# Altium footprint library diode.PCBLIB: 211 footprints (part 10 of 14)
Each footprint in its own frame and in the unit in brackets; x right, y up, seen from the top. Pads: shape width x height; smd on the part's side, far side on the other; paste and mask are expansions set on the pad; w line width, h text height; cw(c..) or ccw(c..) is an arc to the next point about the centre after c.
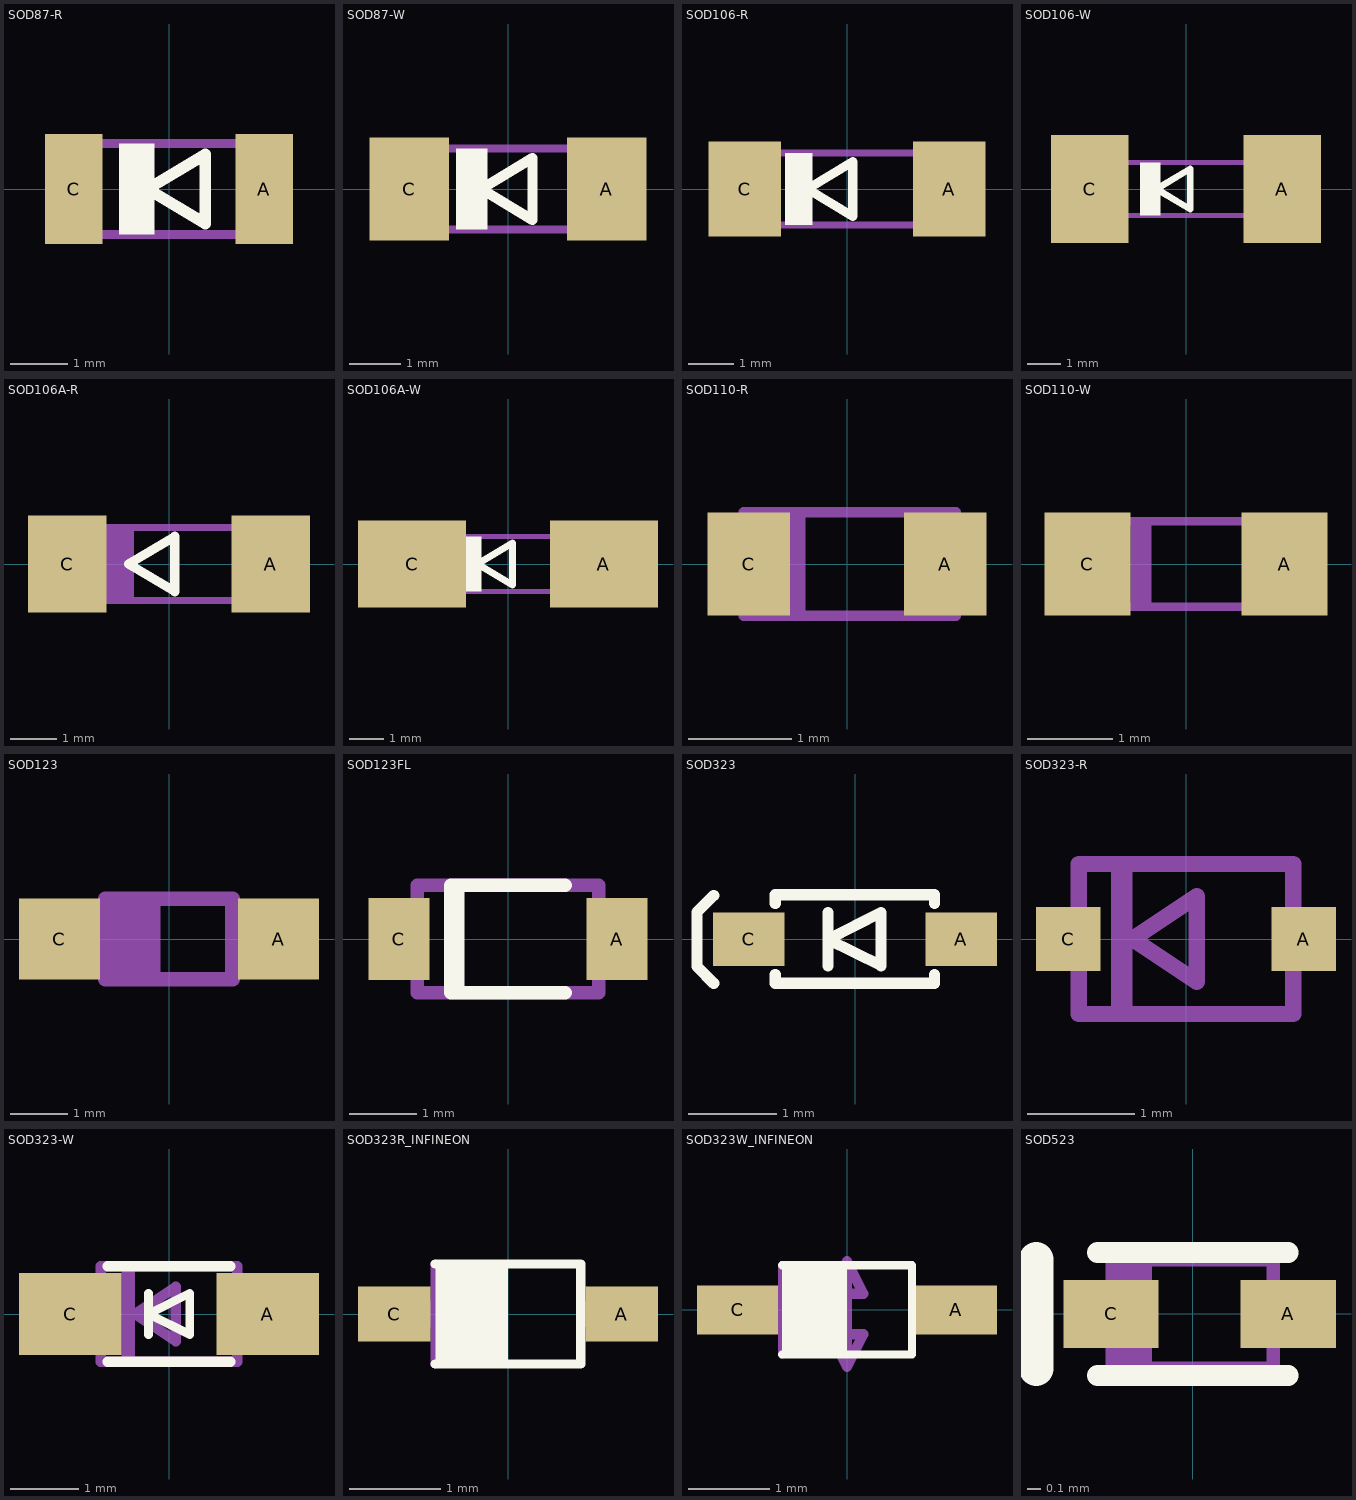
[diagram p9: the footprints below, top view; thin cyan lines are the x and y axes]

## SOD87-R [mm]
pads (2):
  rect 1x1.9 smd: A(1.65,0) C(-1.65,0)
Top Overlay:
  rectangle: -0.864,-0.787 -0.254,0.787
  lines w0.203: -0.373,0 0.627,0.6 0.627,-0.6 -0.373,0
Mechanical 4:
  rectangle: -1.854,-0.864 -1.295,0.864
  rectangle: 1.295,-0.864 1.854,0.864
  lines w0.152: -1.321,-0.787 1.321,-0.787 ; -1.321,0.787 1.321,0.787

## SOD87-W [mm]
pads (2):
  rect 1.55x2 smd: A(1.925,0) C(-1.925,0)
Top Overlay:
  rectangle: -1.014,-0.787 -0.404,0.787
  lines w0.203: -0.523,0 0.477,-0.6 0.477,0.6 -0.523,0
Mechanical 4:
  rectangle: 1.446,-0.864 2.004,0.864
  rectangle: -2.004,-0.864 -1.446,0.864
  lines w0.152: -1.471,-0.787 1.471,-0.787 ; -1.471,0.787 1.471,0.787

## SOD106-R [mil]
pads (2):
  rect 62.99x82.68 smd: A(88.58,0) C(-88.58,0)
Top Overlay:
  rectangle: -53.69,-31 -29.69,31
  lines w8: -34.37,0 5,-23.62 5,23.62 -34.37,0
Mechanical 4:
  rectangle: 70.69,-34 92.69,34
  rectangle: -92.69,-34 -70.69,34
  lines w6: -71.69,-31 71.69,-31 ; -71.69,31 71.69,31

## SOD106-W [mil]
pads (2):
  rect 90.55x125.98 smd: A(112.2,0) C(-112.2,0)
Top Overlay:
  rectangle: -53.69,-31 -29.69,31
  lines w8: -34.37,0 5,23.62 5,-23.62 -34.37,0
Mechanical 4:
  rectangle: -92.69,-34 -70.69,34
  rectangle: 70.69,-34 92.69,34
  lines w6: -71.69,-31 71.69,-31 ; -71.69,31 71.69,31

## SOD106A-R [mil]
pads (2):
  rect 66.93x82.68 smd: A(86.61,0) C(-86.61,0)
Top Overlay:
  lines w8: -34.37,0 5,23.62 5,-23.62 -34.37,0
Mechanical 4:
  rectangle: -92.69,-34 -70.69,34
  rectangle: 70.69,-34 92.69,34
  rectangle: -53.69,-31 -29.69,31
  lines w6: -71.69,-31 71.69,-31 ; -71.69,31 71.69,31

## SOD106A-W [mil]
pads (2):
  rect 122.05x98.43 smd: A(108.27,0) C(-108.27,0)
Top Overlay:
  rectangle: -53.69,-31 -29.69,31
  lines w8: -34.37,0 5,23.62 5,-23.62 -34.37,0
Mechanical 4:
  rectangle: -92.69,-34 -70.69,34
  rectangle: 70.69,-34 92.69,34
  lines w6: -71.69,-31 71.69,-31 ; -71.69,31 71.69,31

## SOD110-R [mil]
pads (2):
  rect 31.5x39.37 smd: A(37.4,0) C(-37.4,0)
Mechanical 4:
  rectangle: -25.59,-17.72 -15.75,17.72
  lines w4: -39.37,-19.69 41.34,-19.69 41.34,19.69 -39.37,19.69 -39.37,-19.69

## SOD110-W [mm]
pads (2):
  rect 1x1.2 smd: A(1.15,0) C(-1.15,0)
Mechanical 4:
  rectangle: -0.65,-0.45 -0.4,0.45
  lines w0.102: -1,-0.5 -1,0.5 1.05,0.5 1.05,-0.5 -1,-0.5

## SOD123 [mil]
pads (2):
  rect 55.12x55.12 smd: A(74.8,0) C(-74.8,0)
Mechanical 4:
  rectangle: -76.77,-17.72 -47.24,15.75
  rectangle: 47.24,-17.72 76.77,15.75
  rectangle: -41.34,-25.59 -5.91,27.56
  lines w10: -43.31,-27.56 43.31,-27.56 43.31,27.56 -43.31,27.56 -43.31,-27.56
3D body "CircuitWorks-SOD123.step": height 50, standoff 0, extent -72.83,-31.49 72.84,31.5

## SOD123FL [mil]
pads (2):
  rect 35.83x48.03 smd: A(63.98,0) C(-63.98,0)
Top Overlay:
  rectangle: -37.4,-30.51 -25.59,31.5
  lines w8: -33.46,-31.5 33.46,-31.5 ; -33.46,31.5 33.46,31.5
Mechanical 4:
  region: 70.87,21.65 56.1,21.65 56.1,-21.65 70.87,-21.65
  rectangle: -70.87,-21.65 -56.1,21.65
  lines w8: -53.15,-31.5 -53.15,31.5 53.15,31.5 53.15,-31.5 -53.15,-31.5
3D body "User Library-SOD123F.step": height 47.24, standoff -0.39, extent -74.8,-33.46 72.84,33.47

## SOD323 [mil]
pads (2):
  rect 32x24 smd: A(47.62,0) C(-47.62,0)
Top Overlay:
  lines w5: -63.37,-19.68 -70.87,-12.19 -70.87,0 -70.87,12.19 -63.37,19.68 ; -35.81,-15.75 -35.81,-19.68 35.62,-19.68 35.62,-15.75 ; -35.81,16 -35.81,20 35.62,20 35.62,16 ; -12.19,-11.81 -12.19,0 ; -12.19,12 -12.19,0 ; -12.19,0 11.62,-11.81 11.62,12 -12.19,0
3D body "User Library-SOD323-1.step": height 43.31, standoff 0, extent -51.56,-26.57 50.8,26.57

## SOD323-R [mil]
pads (2):
  rect 23.62x23.62 smd: A(43.31,0) C(-43.31,0)
Mechanical 4:
  rectangle: -27.56,-27.56 -19.69,27.56
  lines w6: -39.37,-27.56 -39.37,27.56 39.37,27.56 39.37,-27.56 -39.37,-27.56 ; -19.69,0 3.94,-15.75 3.94,15.75 -19.69,0

## SOD323-W [mil]
pads (2):
  rect 59.06x47.24 smd: A(57.09,0) C(-57.09,0)
Top Overlay:
  lines w5: -11.81,-11.81 -11.81,0 ; -11.81,12 -11.81,0 ; -11.81,0 12,12 12,-11.81 -11.81,0
  lines w6: -35.43,-27.56 35.43,-27.56 ; -35.43,27.56 35.43,27.56
Mechanical 4:
  rectangle: -27.56,-27.56 -19.69,27.56
  lines w6: -39.37,-27.56 -39.37,27.56 39.37,27.56 39.37,-27.56 -39.37,-27.56 ; -19.69,0 3.94,15.75 3.94,-15.75 -19.69,0

## SOD323R_INFINEON [mil]
pads (2):
  rect 31.5x23.62 smd: A(49.21,0) C(-49.21,0)
Top Overlay:
  rectangle: -31.5,-21.65 0,21.65
  lines w4: -31.5,-21.65 31.5,-21.65 31.5,21.65 -31.5,21.65
Mechanical 4:
  rectangle: -49.21,-5.91 -31.5,5.91
  rectangle: 31.5,-5.91 49.21,5.91
  lines w4: -31.5,-21.65 -31.5,21.65

## SOD323W_INFINEON [mm]
pads (2):
  rect 1x0.6 smd: A(1.35,0) C(-1.35,0)
Top Overlay:
  rectangle: -0.8,-0.55 0,0.55
  lines w0.102: -0.8,-0.55 0.8,-0.55 0.8,0.55 -0.8,0.55
Mechanical 4:
  rectangle: -1.25,-0.15 -0.8,0.15
  rectangle: 0.8,-0.15 1.25,0.15
  lines w0.102: -0.8,-0.55 -0.8,0.55
Mechanical 15:
  lines w0.127: 0,-0.7 0,0.6 ; 0,-0.7 0.2,-0.3 -0.2,-0.3 0,-0.7 ; 0,0.6 -0.2,0.2 0.2,0.2 0,0.6

## SOD523 [mil]
pads (2):
  rect 27.56x19.69 smd: A(27.56,0) C(-23.62,0)
Top Overlay:
  lines w6: -27.56,-17.72 27.56,-17.72 ; -27.56,17.72 27.56,17.72
  lines w10: -45.28,-15.75 -45.28,15.75
Mechanical 4:
  rectangle: -29.53,-6.69 -21.26,6.69
  rectangle: 21.26,-6.69 29.53,6.69
  rectangle: -23.23,-15.75 -11.81,15.75
  lines w4: -23.23,-15.75 23.23,-15.75 23.23,15.75 -23.23,15.75 -23.23,-15.75